# EAGLE library part BH1745NUC (library pimoroni-ics)
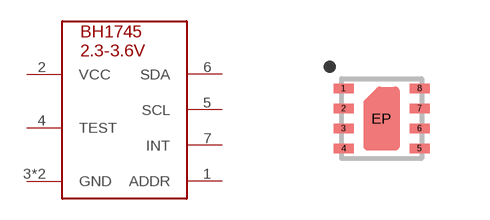
[diagram p77: symbol with the pads of DFN-8-2X2; footprint DFN-8-2X2]

Designator prefix -

## BH1745NUC  [DFN-8-2X2]
1  ADDR
2  VCC
3  GND
4  TEST
5  SCL
6  SDA
7  INT
EP  GND

## Footprint DFN-8-2X2 (pad centres in mm)
smd 0.5 x 0.23: 1 -0.95,0.75; 2 -0.95,0.25; 3 -0.95,-0.25; 4 -0.95,-0.75; 5 0.95,-0.75; 6 0.95,-0.25; 7 0.95,0.25; 8 0.95,0.75
smd 0.4 x 0.4: EP 0,0